# Altium footprint library SelfLib.PcbLib: 55 footprints (part 1 of 4)
Each footprint in its own frame and in the unit in brackets; x right, y up, seen from the top. Pads: shape width x height; smd on the part's side, far side on the other; paste and mask are expansions set on the pad; w line width, h text height; cw(c..) or ccw(c..) is an arc to the next point about the centre after c.
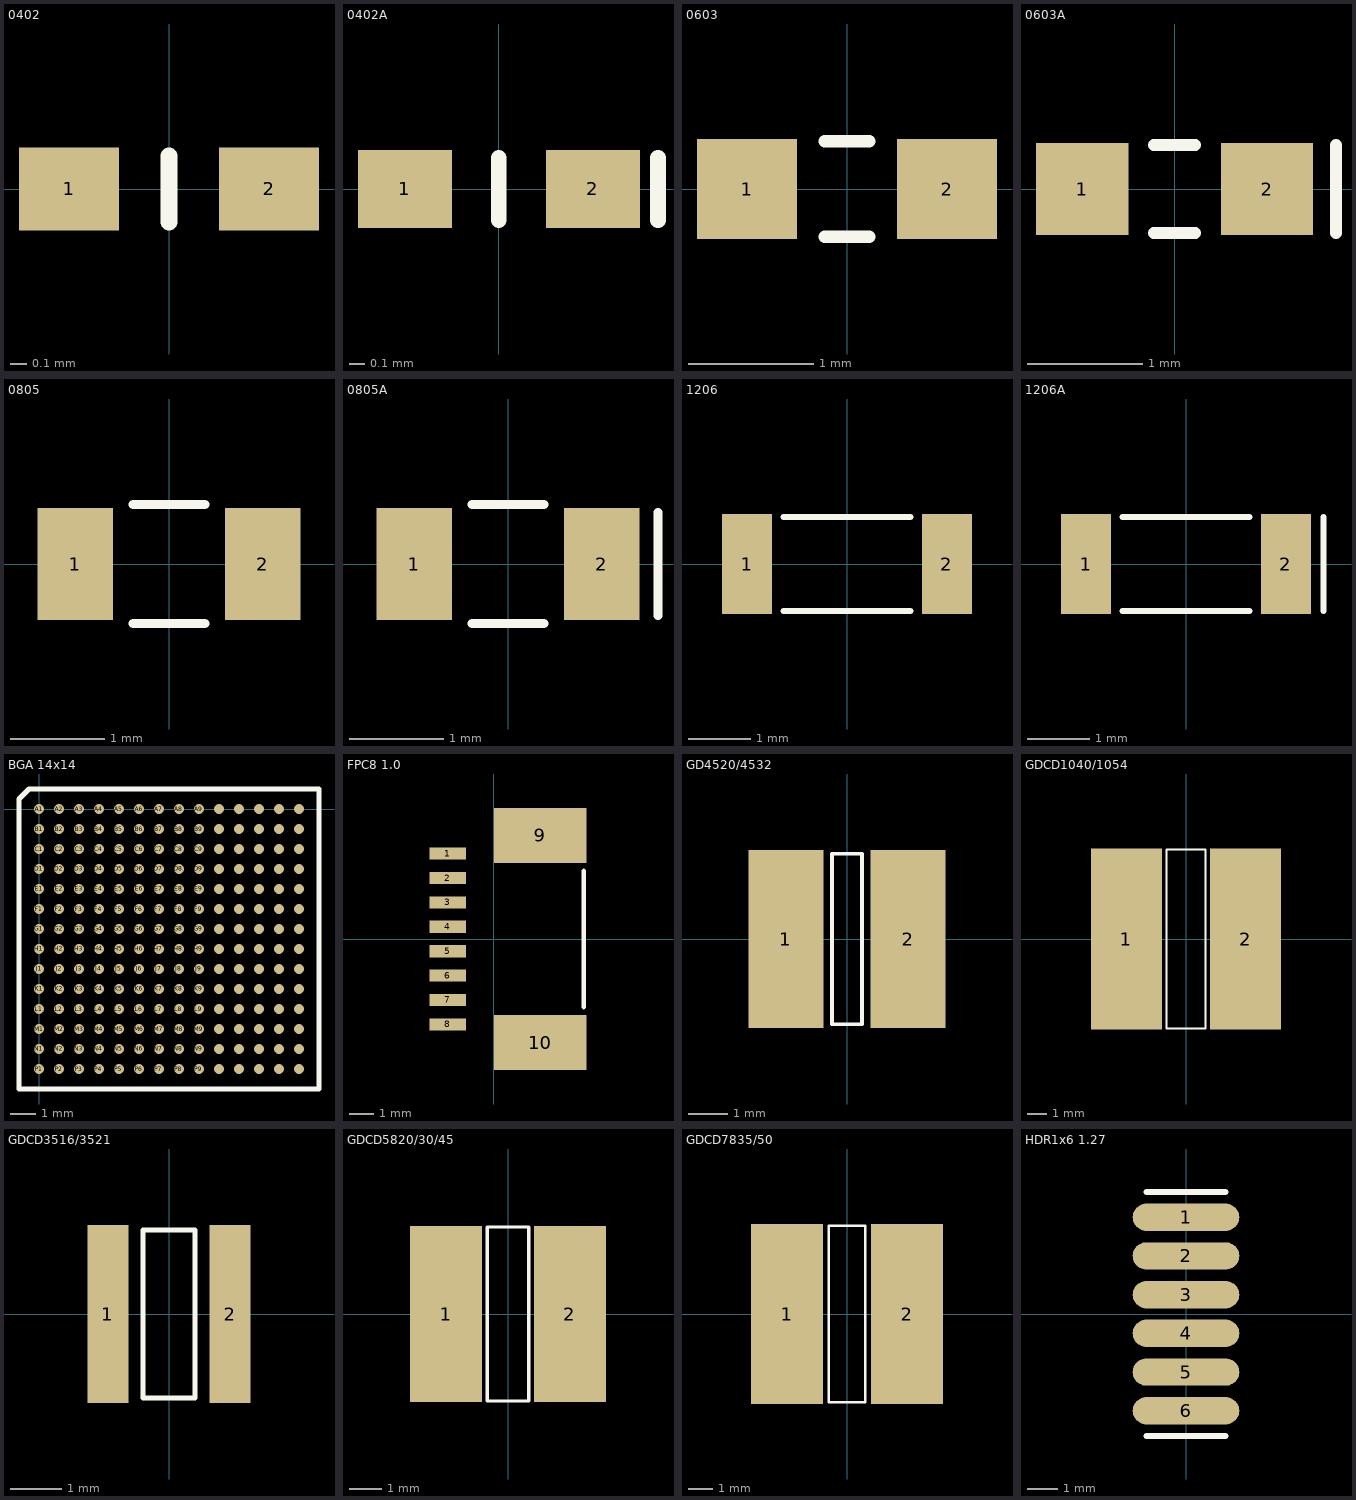
[diagram p0: the footprints below, top view; thin cyan lines are the x and y axes]

## 0402 [mm]
height 1
pads (2):
  rect 0.6x0.5 smd: 1(-0.6,0) 2(0.6,0)
Top Overlay:
  lines w0.1: 0,-0.2 0,0.2

## 0402A [mm]
height 1
pads (2):
  rect 0.6x0.5 smd: 1(-0.6,0) 2(0.6,0)
Top Overlay:
  lines w0.1: 0,-0.2 0,0.2 ; 1.016,-0.2 1.016,0.2

## 0603 [mm]
height 1
pads (2):
  rect 0.8x0.8 smd: 1(-0.8,0) 2(0.8,0)
Top Overlay:
  lines w0.1: -0.18,-0.381 0.18,-0.381 ; -0.18,0.381 0.18,0.381

## 0603A [mm]
height 1
pads (2):
  rect 0.8x0.8 smd: 1(-0.8,0) 2(0.8,0)
Top Overlay:
  lines w0.1: -0.18,-0.381 0.18,-0.381 ; -0.18,0.381 0.18,0.381 ; 1.397,-0.381 1.397,0.381

## 0805 [mm]
height 1
pads (2):
  rect 0.8x1.2 smd: 1(-1,0) 2(1,0)
Top Overlay:
  lines w0.1: -0.381,-0.635 0.381,-0.635 ; -0.381,0.635 0.381,0.635

## 0805A [mm]
height 1
pads (2):
  rect 0.8x1.2 smd: 1(-1,0) 2(1,0)
Top Overlay:
  lines w0.1: -0.381,-0.635 0.381,-0.635 ; -0.381,0.635 0.381,0.635 ; 1.6,-0.55 1.6,0.55

## 1206 [mm]
height 1
pads (2):
  rect 0.8x1.6 smd: 1(-1.6,0) 2(1.6,0)
Top Overlay:
  lines w0.1: -1.016,-0.75 1.016,-0.75 ; -1.016,0.75 1.016,0.75

## 1206A [mm]
height 1
pads (2):
  rect 0.8x1.6 smd: 1(-1.6,0) 2(1.6,0)
Top Overlay:
  lines w0.1: -1.016,-0.75 1.016,-0.75 ; -1.016,0.75 1.016,0.75 ; 2.2,-0.75 2.2,0.75

## BGA 14x14 [mm]
height 2
pads (196):
  round 0.4 smd paste+0: A1(0,0) A2(0.8,0) A3(1.6,0) A4(2.4,0) A5(3.2,0) A6(4,0) A7(4.8,0) A8(5.6,0) A9(6.4,0) A10(7.2,0) A11(8,0) A12(8.8,0) A13(9.6,0) A14(10.4,0) B1(0,-0.8) B2(0.8,-0.8) B3(1.6,-0.8) B4(2.4,-0.8) B5(3.2,-0.8) B6(4,-0.8) B7(4.8,-0.8) B8(5.6,-0.8) B9(6.4,-0.8) B10(7.2,-0.8) B11(8,-0.8) B12(8.8,-0.8) B13(9.6,-0.8) B14(10.4,-0.8) C1(0,-1.6) C2(0.8,-1.6) C3(1.6,-1.6) C4(2.4,-1.6) C5(3.2,-1.6) C6(4,-1.6) C7(4.8,-1.6) C8(5.6,-1.6) C9(6.4,-1.6) C10(7.2,-1.6) C11(8,-1.6) C12(8.8,-1.6) C13(9.6,-1.6) C14(10.4,-1.6) D1(0,-2.4) D2(0.8,-2.4) D3(1.6,-2.4) D4(2.4,-2.4) D5(3.2,-2.4) D6(4,-2.4) D7(4.8,-2.4) D8(5.6,-2.4) D9(6.4,-2.4) D10(7.2,-2.4) D11(8,-2.4) D12(8.8,-2.4) D13(9.6,-2.4) D14(10.4,-2.4) E1(0,-3.2) E2(0.8,-3.2) E3(1.6,-3.2) E4(2.4,-3.2) E5(3.2,-3.2) E6(4,-3.2) E7(4.8,-3.2) E8(5.6,-3.2) E9(6.4,-3.2) E10(7.2,-3.2) E11(8,-3.2) E12(8.8,-3.2) E13(9.6,-3.2) E14(10.4,-3.2) F1(0,-4) F2(0.8,-4) F3(1.6,-4) F4(2.4,-4) F5(3.2,-4) F6(4,-4) F7(4.8,-4) F8(5.6,-4) F9(6.4,-4) F10(7.2,-4) F11(8,-4) F12(8.8,-4) F13(9.6,-4) F14(10.4,-4) G1(0,-4.8) G2(0.8,-4.8) G3(1.6,-4.8) G4(2.4,-4.8) G5(3.2,-4.8) G6(4,-4.8) G7(4.8,-4.8) G8(5.6,-4.8) G9(6.4,-4.8) G10(7.2,-4.8) G11(8,-4.8) G12(8.8,-4.8) G13(9.6,-4.8) G14(10.4,-4.8) H1(0,-5.6) H2(0.8,-5.6) H3(1.6,-5.6) H4(2.4,-5.6) H5(3.2,-5.6) H6(4,-5.6) H7(4.8,-5.6) H8(5.6,-5.6) H9(6.4,-5.6) H10(7.2,-5.6) H11(8,-5.6) H12(8.8,-5.6) H13(9.6,-5.6) H14(10.4,-5.6) J1(0,-6.4) J2(0.8,-6.4) J3(1.6,-6.4) J4(2.4,-6.4) J5(3.2,-6.4) J6(4,-6.4) J7(4.8,-6.4) J8(5.6,-6.4) J9(6.4,-6.4) J10(7.2,-6.4) J11(8,-6.4) J12(8.8,-6.4) J13(9.6,-6.4) J14(10.4,-6.4) K1(0,-7.2) K2(0.8,-7.2) K3(1.6,-7.2) K4(2.4,-7.2) K5(3.2,-7.2) K6(4,-7.2) K7(4.8,-7.2) K8(5.6,-7.2) K9(6.4,-7.2) K10(7.2,-7.2) K11(8,-7.2) K12(8.8,-7.2) K13(9.6,-7.2) K14(10.4,-7.2) L1(0,-8) L2(0.8,-8) L3(1.6,-8) L4(2.4,-8) L5(3.2,-8) L6(4,-8) L7(4.8,-8) L8(5.6,-8) L9(6.4,-8) L10(7.2,-8) L11(8,-8) L12(8.8,-8) L13(9.6,-8) L14(10.4,-8) M1(0,-8.8) M2(0.8,-8.8) M3(1.6,-8.8) M4(2.4,-8.8) M5(3.2,-8.8) M6(4,-8.8) M7(4.8,-8.8) M8(5.6,-8.8) M9(6.4,-8.8) M10(7.2,-8.8) M11(8,-8.8) M12(8.8,-8.8) M13(9.6,-8.8) M14(10.4,-8.8) N1(0,-9.6) N2(0.8,-9.6) N3(1.6,-9.6) N4(2.4,-9.6) N5(3.2,-9.6) N6(4,-9.6) N7(4.8,-9.6) N8(5.6,-9.6) N9(6.4,-9.6) N10(7.2,-9.6) N11(8,-9.6) N12(8.8,-9.6) N13(9.6,-9.6) N14(10.4,-9.6) P1(0,-10.4) P2(0.8,-10.4) P3(1.6,-10.4) P4(2.4,-10.4) P5(3.2,-10.4) P6(4,-10.4) P7(4.8,-10.4) P8(5.6,-10.4) P9(6.4,-10.4) P10(7.2,-10.4) P11(8,-10.4) P12(8.8,-10.4) P13(9.6,-10.4) P14(10.4,-10.4)
Top Overlay:
  lines w0.2: -0.8,-11.2 -0.8,0.4 -0.4,0.8 11.2,0.8 11.2,-11.2 -0.8,-11.2

## FPC8 1.0 [mm]
height 2
pads (10):
  rect 1.5x0.5 smd: 1(-1.9,3.5) 2(-1.9,2.5) 3(-1.9,1.5) 4(-1.9,0.5) 5(-1.9,-0.5) 6(-1.9,-1.5) 7(-1.9,-2.5) 8(-1.9,-3.5)
  rect 3.8x2.25 smd: 9(1.9,4.25) 10(1.9,-4.25)
Top Overlay:
  lines w0.2: 3.683,-2.794 3.683,2.794

## GD4520/4532 [mm]
height 3.2
pads (2):
  rect 1.9x4.5 smd: 1(-1.55,0) 2(1.55,0)
Top Overlay:
  lines w0.1: -0.381,-2.159 0.381,-2.159 0.381,2.159 -0.381,2.159 -0.381,-2.159

## GDCD1040/1054 [mm]
height 5.4
pads (2):
  rect 3.75x9.5 smd: 1(-3.125,0) 2(3.125,0)
Top Overlay:
  lines w0.1: -1.016,-4.699 -1.016,4.699 1.016,4.699 1.016,-4.699 -1.016,-4.699

## GDCD3516/3521 [mm]
height 2.1
pads (2):
  rect 0.8x3.5 smd: 1(-1.2,0) 2(1.2,0)
Top Overlay:
  lines w0.1: -0.508,-1.651 -0.508,1.651 0.508,1.651 0.508,-1.651 -0.508,-1.651

## GDCD5820/30/45 [mm]
height 4.5
pads (2):
  rect 2.2x5.4 smd: 1(-1.9,0) 2(1.9,0)
Top Overlay:
  lines w0.1: -0.635,-2.667 -0.635,2.667 0.635,2.667 0.635,-2.667 -0.635,-2.667

## GDCD7835/50 [mm]
height 5
pads (2):
  rect 3x7.5 smd: 1(-2.5,0) 2(2.5,0)
Top Overlay:
  lines w0.1: -0.762,-3.683 -0.762,3.683 0.762,3.683 0.762,-3.683 -0.762,-3.683

## HDR1x6 1.27 [mm]
height 5
pads (6):
  oval 3.5x0.9 smd: 1(0,3.175) 2(0,1.905) 3(0,0.635) 4(0,-0.635) 5(0,-1.905) 6(0,-3.175)
Top Overlay:
  lines w0.2: -1.3,-4 1.3,-4 ; -1.3,4 1.3,4